# EAGLE library part SN74LVC2T45 (library pixhawk2-updated)
DUAL-BIT DUAL-SUPPLY BUS TRANSCEIVER WITH CONFIGURABLE VOLTAGE TRANSLATION AND 3-STATE OUTPUTS
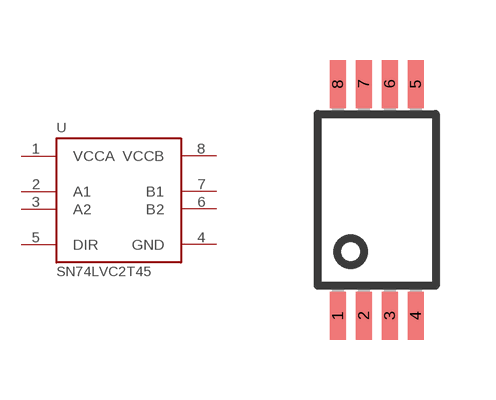
[diagram p5: symbol with the pads of R-PDSO-G08; footprint R-PDSO-G08]

Designator prefix U

## SN74LVC2T45  [R-PDSO-G08]
1  VCCA  sup
2  A1
3  A2
4  GND  sup
5  DIR  in
6  B2
7  B1
8  VCCB  sup

## Footprint R-PDSO-G08 (pad centres in mm)
PLASTIC SMALL-OUTLINE PACKAGE, SO 8 JEDEC MO-153 Source: www.ti.com/.. slvs087l.pdf
smd 0.4 x 1.2: 1 -0.975,-2.9; 2 -0.325,-2.9; 3 0.325,-2.9; 4 0.975,-2.9; 5 0.975,2.9; 6 0.325,2.9; 7 -0.325,2.9; 8 -0.975,2.9